# Altium integrated library FC4SDCBMM16.0-T1.IntLib: 1 symbol
Pins are listed as number, name and electrical type; pins without a type are passive.

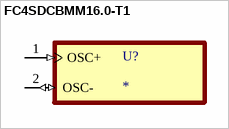
[diagram p0: symbol FC4SDCBMM16.0-T1]

## FC4SDCBMM16.0-T1
designator U?
16 MHz Â±30ppm Crystal 20pF 40 Ohms HC-49/US; MP: FC4SDCBMM16.0-T1; MF: Fox Electronics; SnapEDA_Link: https://www.snapeda.com/parts/FC4SDCBMM16.0-T1/Fox+Electronics/view-part/?ref=snap; Package: HC-49/US Fox Electronics; Value: *; Purchase-URL: https://pricing.snapeda.com/search/part/FC4SDCBMM16.0-T1/?ref=eda; Check_prices: https://www.snapeda.com/parts/FC4SDCBMM16.0-T1/Fox+Electronics/view-part/?ref=eda; Availability: In Stock; Price: None
footprint XTAL_FOXSDLF/160-20
pins: 1 OSC+ (in), 2 OSC- (io)